# EAGLE library part AM26C31 (library diskohedron)
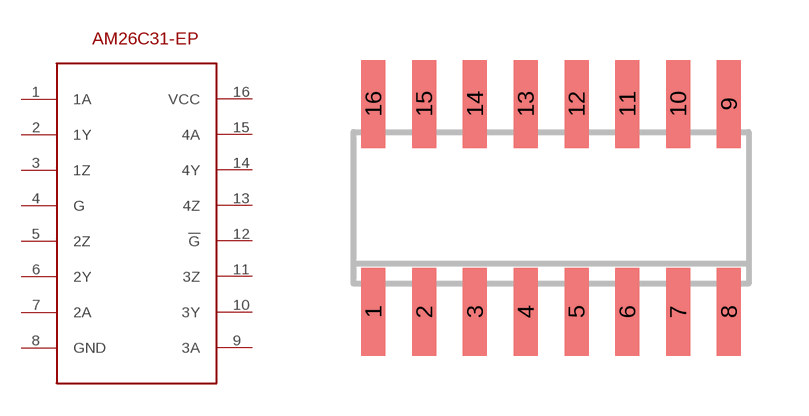
[diagram p2: symbol with the pads of SOIC16; footprint SOIC16]

Designator prefix -

## AM26C31  [SOIC16]
1  1A
2  1Y
3  1Z
4  G
5  2Z
6  2Y
7  2A
8  GND
9  3A
10  3Y
11  3Z
12  !G
13  4Z
14  4Y
15  4A
16  VCC

## Footprint SOIC16 (pad centres in mm)
smd 0.6 x 2.2: 1 -4.445,-2.6; 2 -3.175,-2.6; 3 -1.905,-2.6; 4 -0.635,-2.6; 5 0.635,-2.6; 6 1.905,-2.6; 7 3.175,-2.6; 8 4.445,-2.6; 9 4.445,2.6; 10 3.175,2.6; 11 1.905,2.6; 12 0.635,2.6; 13 -0.635,2.6; 14 -1.905,2.6; 15 -3.175,2.6; 16 -4.445,2.6